# Altium footprint library DIP762W56P254L988H533Q8N.PcbLib: 1 footprints
Each footprint in its own frame and in the unit in brackets; x right, y up, seen from the top. Pads: shape width x height; smd on the part's side, far side on the other; paste and mask are expansions set on the pad; w line width, h text height; cw(c..) or ccw(c..) is an arc to the next point about the centre after c.
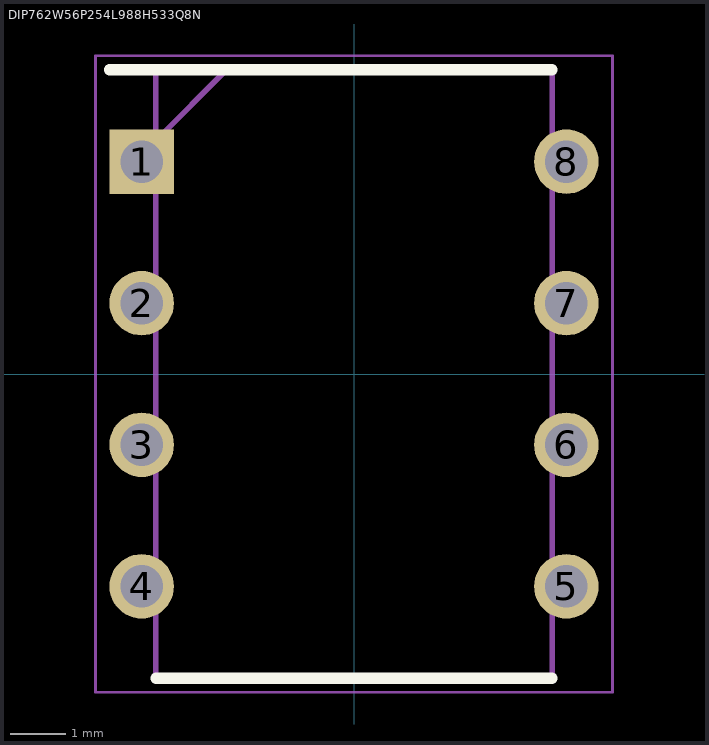
[diagram p0: the footprint, top view; thin cyan lines are the x and y axes]

## DIP762W56P254L988H533Q8N [mil]
pads (8):
  rect 45.59x45.59 / inner round 45.59 / far side rect 45.59x45.59 hole 29.84: 1(-150,150)
  round 45.59 hole 29.84: 2(-150,50) 3(-150,-50) 4(-150,-150) 5(150,-150) 6(150,-50) 7(150,50) 8(150,150)
Top Overlay:
  lines w7.87: -172.8,214.96 139.96,214.96 ; -139.96,-214.96 139.96,-214.96
Mechanical 15:
  lines w3.94: -139.96,164.96 -89.96,214.96 ; -139.96,-214.96 139.96,-214.96 139.96,214.96 -139.96,214.96 -139.96,-214.96
Mechanical 20:
  lines w1.97: -182.64,-224.8 182.64,-224.8 182.64,224.8 -182.64,224.8 -182.64,-224.8